# Altium footprint library Lamps+antenna.PcbLib: 6 footprints
Each footprint in its own frame and in the unit in brackets; x right, y up, seen from the top. Pads: shape width x height; smd on the part's side, far side on the other; paste and mask are expansions set on the pad; w line width, h text height; cw(c..) or ccw(c..) is an arc to the next point about the centre after c.
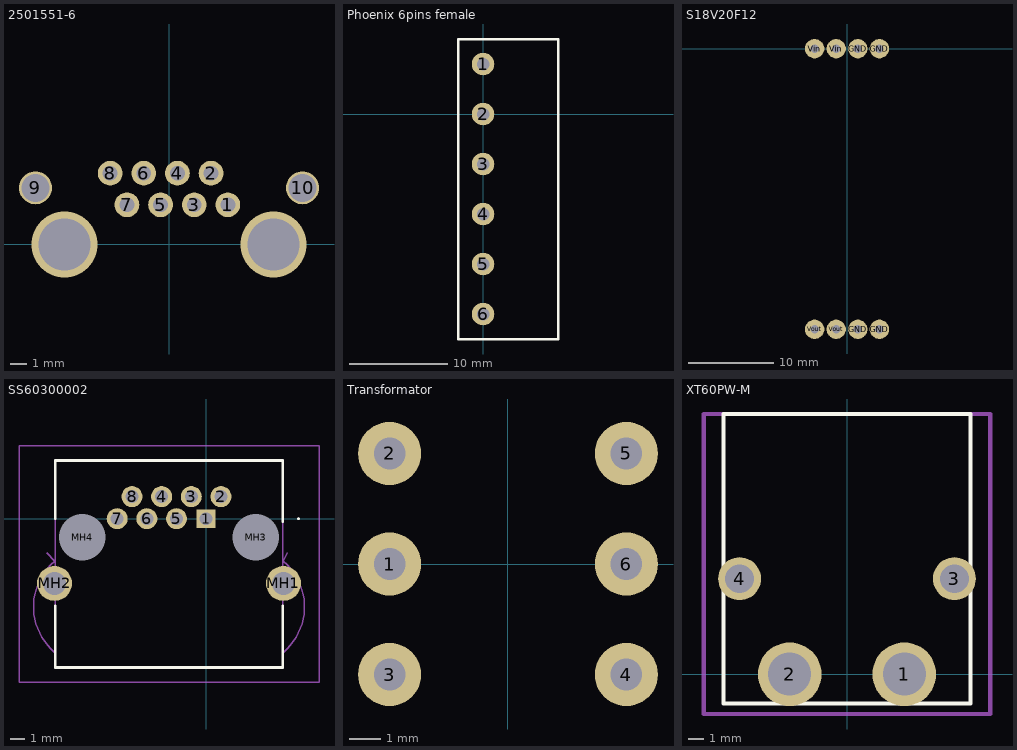
[diagram p0: the footprints below, top view; thin cyan lines are the x and y axes]

## 2501551-6 [mm]
pads (10):
  round 1.5 hole 0.9: 1(3.57,2.4) 2(2.55,4.32) 3(1.53,2.4) 4(0.51,4.32) 5(-0.51,2.4) 6(-1.53,4.32) 7(-2.55,2.4) 8(-3.57,4.32)
  round 2 hole 1.7: 9(-8.1,3.43) 10(8.1,3.43)
via -6.35,0 diameter 4 hole 3.15
via 6.35,0 diameter 4 hole 3.15
3D body "2501551-6.stp": height 13.51, standoff -3.17, extent -8.3,-5.4 8.3,10.5

## Phoenix 6pins female [mil]
pads (6):
  round 90 hole 50: 1(0,200) 2(0,0) 3(0,-200) 4(0,-400) 5(0,-600) 6(0,-800)
Top Overlay:
  lines w10: -100,-900 300,-900 300,300 -100,300 -100,-900

## S18V20F12 [mil]
pads (8):
  round 90 hole 40: GND(50,-1300) GND(50,0) GND(150,-1300) GND(150,0) Vin(-150,0) Vin(-50,0) Vout(-150,-1300) Vout(-50,-1300)
3D body "s18v20x-step-up-step-down-voltage-regulator.step": height 416.33, standoff 39.37, extent -450,-1500 375,200

## SS60300002 [mm]
pads (12):
  rect 1.3x1.3 hole 0.89: 1(0,0)
  round 1.446 hole 0.89: 2(1.02,1.52) 3(-1.02,1.52) 4(-3.06,1.52) 5(-2.04,0) 6(-4.08,0) 7(-6.12,0) 8(-5.1,1.52)
  round 2.4 hole 1.6: MH1(5.32,-4.45) MH2(-10.43,-4.45)
  round 1.607 hole 3.215 unplated: MH3(3.41,-1.27) MH4(-8.53,-1.27)
Top Overlay:
  lines w0.1: 6.3,0 cw(c6.35,0) 6.4,0 cw(c6.35,0) 6.3,0
  lines w0.2: -10.38,-6 -10.38,-10.24 5.27,-10.24 5.27,-6 ; -10.38,0 -10.38,4.01 5.27,4.01 5.27,-0.2
Mechanical 13:
  lines w0.1: -10.98,-2.34 -10.43,-2.94 ; -10.428,-2.939 ccw(c-7.795,-6.055) -10.68,-8.94 -10.38,-9.24 ; 5.27,-9.24 5.57,-8.94 ccw(c2.685,-6.055) 5.318,-2.939 ; 5.32,-2.94 5.57,-2.34 ; -10.38,-10.24 5.27,-10.24 5.27,4.01 -10.38,4.01 -10.38,-10.24
Mechanical 15:
  lines w0.1: -12.875,-11.24 7.765,-11.24 7.765,5.01 -12.875,5.01 -12.875,-11.24
3D body "SS-60300-002.stp": height 14.71, standoff -2.58, extent -11.764,-10.239 6.664,4.01

## Transformator [mm]
pads (6):
  round 2 hole 1: 1(-3.75,0) 2(-3.75,3.5) 3(-3.75,-3.5) 4(3.75,-3.5) 5(3.75,3.5) 6(3.75,0)
3D body: height 13, standoff 0, extent -5,-5 5,5

## XT60PW-M [mm]
pads (4):
  round 4 hole 2.7: 1(3.6,0) 2(-3.6,0)
  round 2.7 hole 1.8: 3(6.75,6) 4(-6.75,6)
Top Overlay:
  lines w0.254: -7.75,-1.85 7.75,-1.85 7.75,16.35 -7.75,16.35 -7.75,-1.85
Mechanical 1:
  lines w0.254: -9,-2.5 9,-2.5 9,16.35 -9,16.35 -9,-2.5
3D body "XT60PW-M--3DModel-STEP-269445.STEP": height 8.4, standoff -2.55, extent -7.75,-1.85 7.75,16.35